# EAGLE library part XC9536XLVQG44 (library xilinx_xc95XXXxl)
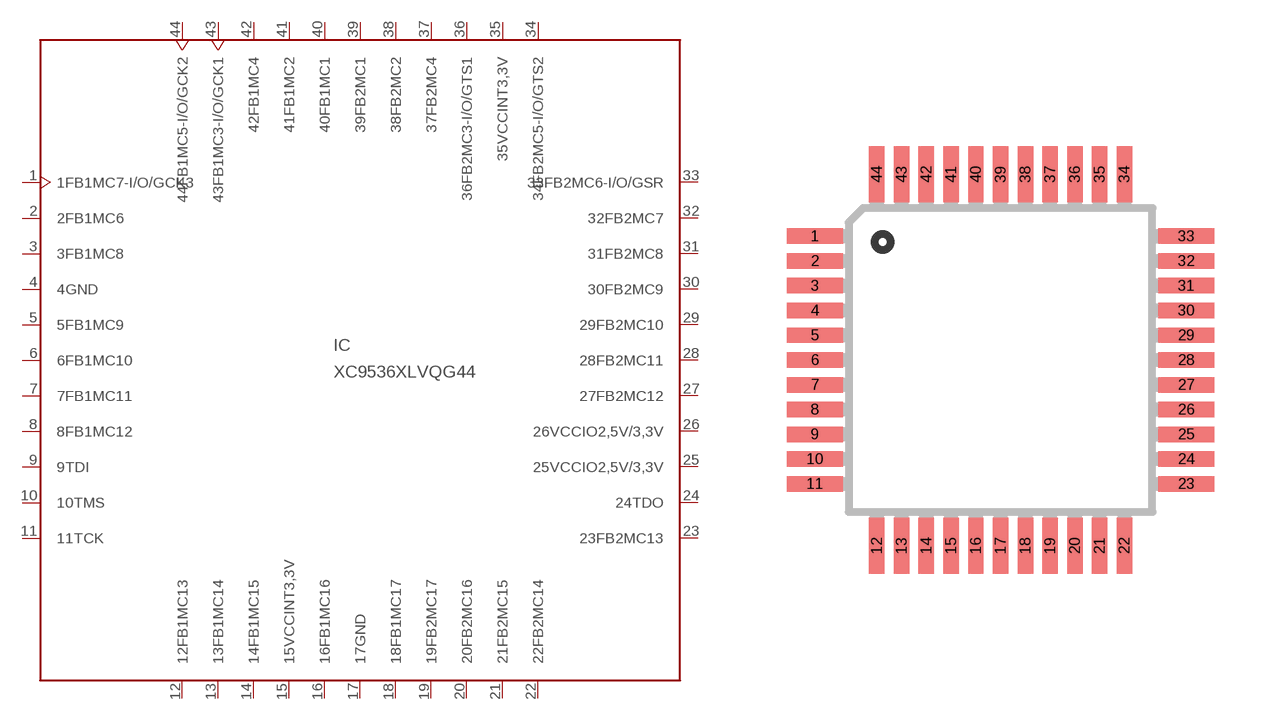
[diagram p3: symbol with the pads of VQFP44; footprint VQFP44]

Designator prefix IC

## XC9536XLVQG44  [VQFP44]
1  1FB1MC7-I/O/GCK3
2  2FB1MC6
3  3FB1MC8
4  4GND  sup
5  5FB1MC9
6  6FB1MC10
7  7FB1MC11
8  8FB1MC12
9  9TDI  in
10  10TMS  in
11  11TCK  in
12  12FB1MC13
13  13FB1MC14
14  14FB1MC15
15  15VCCINT3,3V  pwr
16  16FB1MC16
17  17GND  sup
18  18FB1MC17
19  19FB2MC17
20  20FB2MC16
21  21FB2MC15
22  22FB2MC14
23  23FB2MC13
24  24TDO  out
25  25VCCIO2,5V/3,3V  pwr
26  26VCCIO2,5V/3,3V  pwr
27  27FB2MC12
28  28FB2MC11
29  29FB2MC10
30  30FB2MC9
31  31FB2MC8
32  32FB2MC7
33  33FB2MC6-I/O/GSR
34  34FB2MC5-I/O/GTS2
35  35VCCINT3,3V  pwr
36  36FB2MC3-I/O/GTS1
37  37FB2MC4
38  38FB2MC2
39  39FB2MC1
40  40FB1MC1
41  41FB1MC2
42  42FB1MC4
43  43FB1MC3-I/O/GCK1
44  44FB1MC5-I/O/GCK2

## Footprint VQFP44 (pad centres in mm)
smd 1.8 x 0.5: 1 -6,4; 2 -6,3.2; 3 -6,2.4; 4 -6,1.6; 5 -6,0.8; 6 -6,0; 7 -6,-0.8; 8 -6,-1.6; 9 -6,-2.4; 10 -6,-3.2; 11 -6,-4; 23 6,-4; 24 6,-3.2; 25 6,-2.4; 26 6,-1.6; 27 6,-0.8; 28 6,0; 29 6,0.8; 30 6,1.6; 31 6,2.4; 32 6,3.2; 33 6,4
smd 0.5 x 1.8: 12 -4,-6; 13 -3.2,-6; 14 -2.4,-6; 15 -1.6,-6; 16 -0.8,-6; 17 0,-6; 18 0.8,-6; 19 1.6,-6; 20 2.4,-6; 21 3.2,-6; 22 4,-6; 34 4,6; 35 3.2,6; 36 2.4,6; 37 1.6,6; 38 0.8,6; 39 0,6; 40 -0.8,6; 41 -1.6,6; 42 -2.4,6; 43 -3.2,6; 44 -4,6